# EAGLE library part 74LVC2T45 (library 74LVC2T45DC)
nexperia, 74LVC2T45, Dual supply translating transceiver, 3-state Source: product page <https://www.nexperia.com/products/analog-logic-ics/voltage-translators-level-shifters/74LVC2T45DC.html>, datasheet <https://assets.nexperia.com/documents/data-sheet/74LVC_LVCH2T45.pdf>
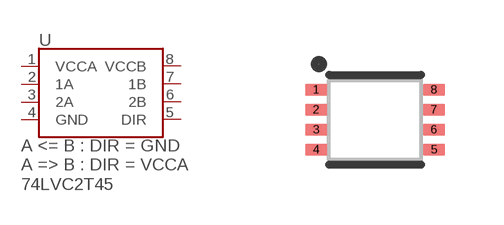
[diagram p0: symbol with the pads of VSSOP8_(SOT765-1); footprint VSSOP8_(SOT765-1)]

Designator prefix U

## 74LVC2T45DC (PROD_ID: IC-19989)  [VSSOP8_(SOT765-1)]
1  VCCA  pwr
2  1A
3  2A
4  GND  pwr
5  DIR  in
6  2B
7  1B
8  VCCB  pwr

## Footprint VSSOP8_(SOT765-1) (pad centres in mm)
VSSOP8 (SOT765-1)
smd 0.55 x 0.3: 1 -1.475,0.75; 2 -1.475,0.25; 3 -1.475,-0.25; 4 -1.475,-0.75; 5 1.475,-0.75; 6 1.475,-0.25; 7 1.475,0.25; 8 1.475,0.75